# Altium integrated library Maxim Amplifiers and Comparators.IntLib: 420 symbols (part 11 of 16)
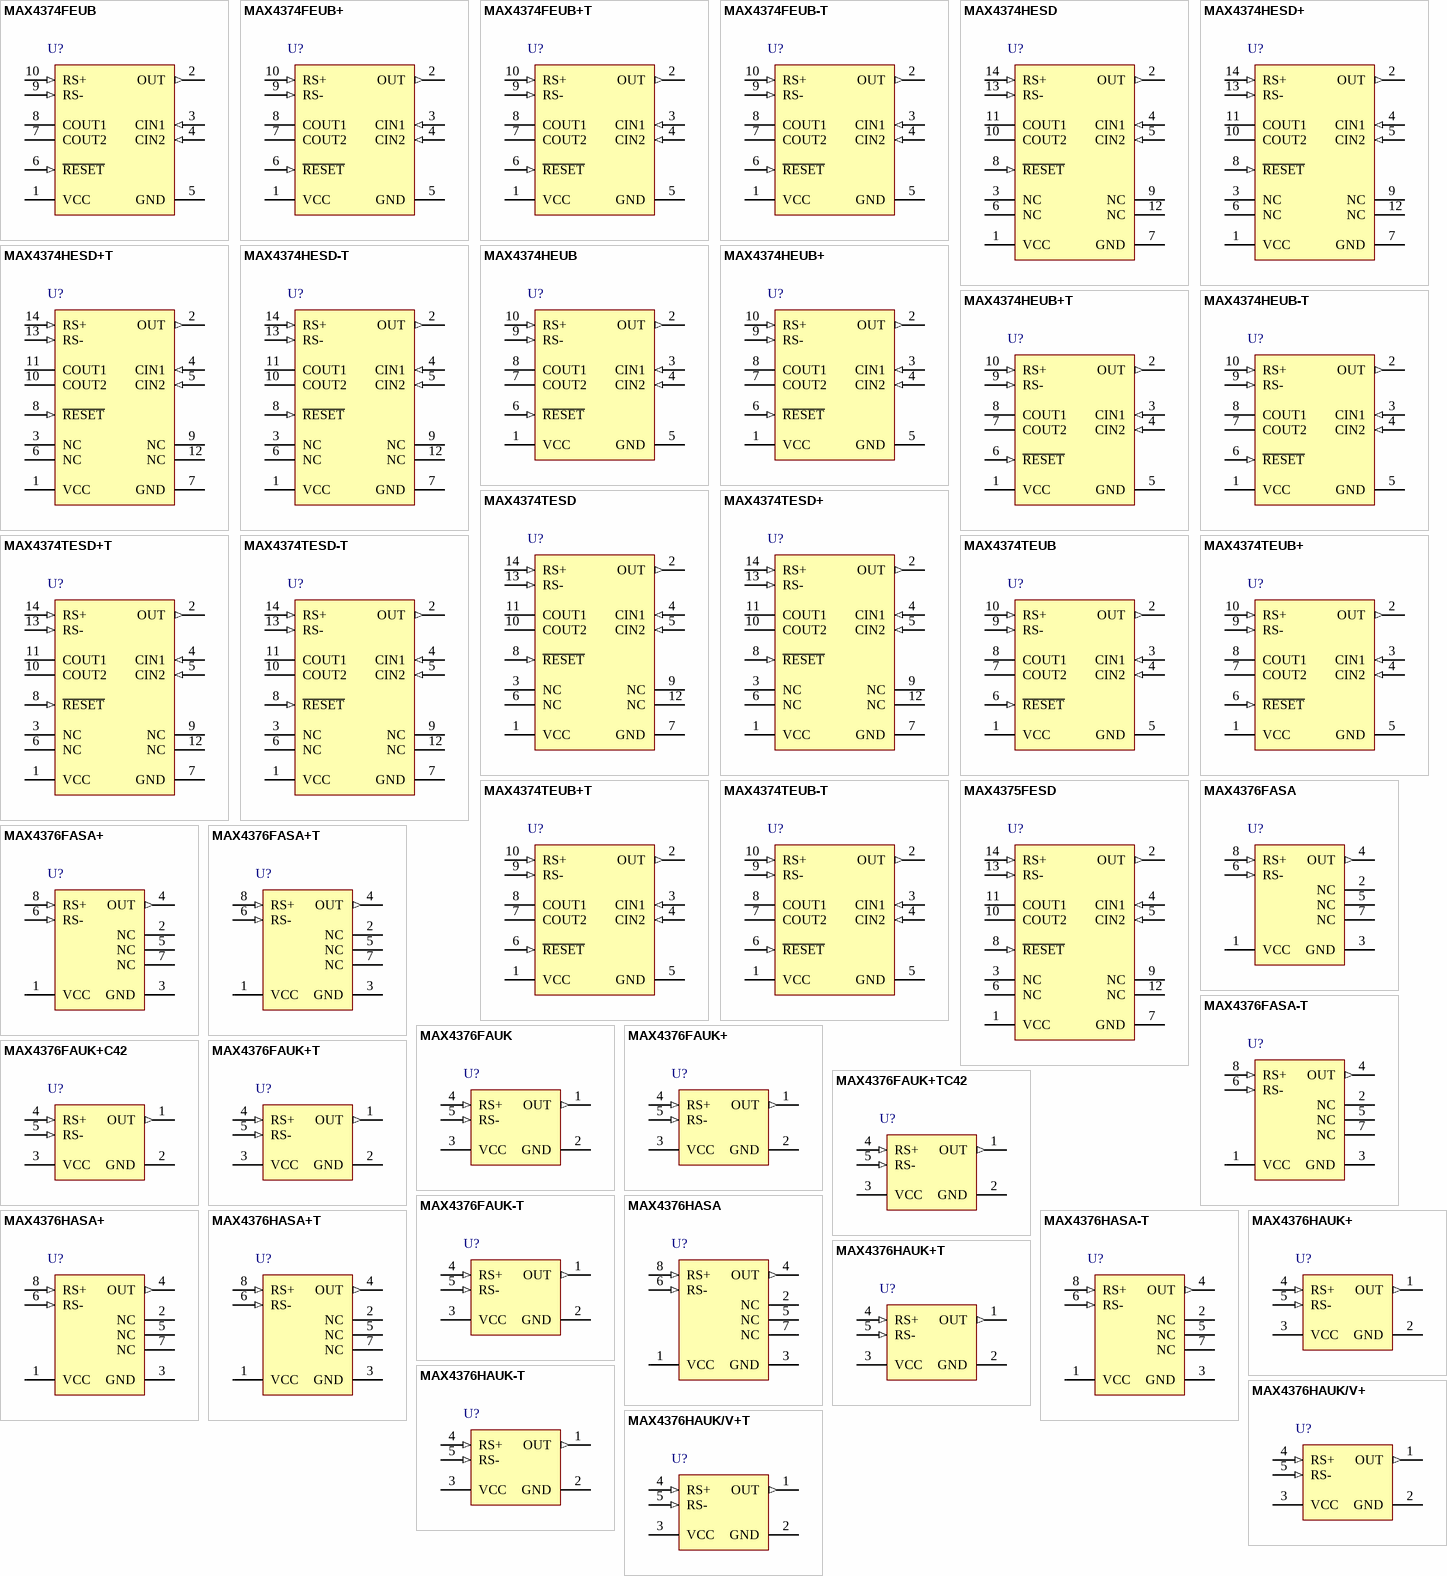
[diagram p20: symbols MAX4374FEUB to MAX4376HAUK/V+T]

## MAX4374TEUB-T
designator U?
Low-cost, Micropower, High-Side Current-Sense Amplifier + 2 Comparators + Reference, 20 V / V Gain, -40 to 85 degC, 10-Pin SOP (U10-2), Tape and Reel; PartNumber: MAX4374TEUB-T; Bi-Dir. Curr. Sense: No; Gain: 20 V/V, 50 V/V ,100 V/V; DatasheetVersion: Rev. 4; PackageVersion: Rev. L, 07/2008; PackageReference: U10-2; PackageDescription: 10-Pin Micro-MAX, Thin Shrink Small-Outline (U10-2), Body 3 x 3 mm, Pitch 0.5 mm; Supplier 1: Digi-Key; Supplier Part Number 1: MAX4374TEUB-T-ND; Supplier 2: Mouser; Supplier Part Number 2: 700-MAX4374TEUB-T-; Mounting Technology: Surface Mount; Code_JEDEC: MO-187; ComponentLink1Description: Manufacturer URL; ComponentLink1URL: http://www.maximintegrated.com/; ComponentLink2Description: Datasheet; ComponentLink2URL: http://datasheets.maximintegrated.com/en/ds/MAX4373-MAX4375.pdf; ComponentLink3Description: Package Specification; ComponentLink3URL: http://pdfserv.maximintegrated.com/package_dwgs/21-0061.PDF
footprint MAXM-U10-2_N (SOP, 10-Leads, Body 3x3mm, Pitch 0.5mm, IPC Medium Density)
footprint MAXM-U10-2_L (SOP, 10-Leads, Body 3x3mm, Pitch 0.5mm, IPC High Density)
footprint MAXM-U10-2_M (SOP, 10-Leads, Body 3x3mm, Pitch 0.5mm, IPC Low Density)
pins: 1 VCC (power) "Supply Voltage Input", 2 OUT (out) "Voltage Output. VOUT is proportional to VSENSE (VRS+ - VRS-).", 3 CIN1 (in) "Comparator Input 1. Positive input of an internal comparator. The negative terminal is connected to a 0.6V internal reference.", 4 CIN2 (in) "Comparator Input 2. Terminal of a second internal comparator. The positive terminal for the MAX4374 and the negative terminal for the MAX4375. The other terminal is connected to a 0.6V internal reference.", 5 GND (power) "Ground", 6 ~{RESET} (in) "Reset Input. Resets the output latch of the comparator at CIN1.", 7 COUT2 (oc) "Open-Drain Comparator Output. Output of the second unlatched internal comparator.", 8 COUT1 (oc) "Open-Drain Comparator Output. Latching output of the comparator controlled by CIN1. Connect R\E\S\E\T\ to GND to disable the latch.", 9 RS- (in) "Load-Side Connection for the External Sense Resistor", 10 RS+ (in) "Power Connection to the External Sense Resistor"

## MAX4375FESD
designator U?
Low-cost, Micropower, High-Side Current-Sense Amplifier + 2 Comparators + Reference, 50 V / V Gain, -40 to 85 degC, 14-Pin SOIC (S14-1); PartNumber: MAX4375FESD; Bi-Dir. Curr. Sense: No; Gain: 20 V/V, 50 V/V, 100 V/V; DatasheetVersion: Rev. 4; PackageVersion: Rev. D, 10/2012; PackageReference: S14-1; PackageDescription: 14-Pin Small-Outline IC, Narrow (0.15in), Body 3.9 x 8.65 mm, Pitch 1.27 mm; Supplier 1: Digi-Key; Supplier Part Number 1: MAX4375FESD-ND; Supplier 2: Mouser; Supplier Part Number 2: 700-MAX4375FESD-NR; Mounting Technology: Surface Mount; Code_JEDEC: MS-012; ComponentLink1Description: Manufacturer URL; ComponentLink1URL: http://www.maximintegrated.com/; ComponentLink2Description: Datasheet; ComponentLink2URL: http://datasheets.maximintegrated.com/en/ds/MAX4373-MAX4375.pdf; ComponentLink3Description: Package Specification; ComponentLink3URL: http://pdfserv.maximintegrated.com/package_dwgs/21-0041.PDF
footprint MAXM-S14-1_N (SOIC, 14-Leads, Body 8.65x3.9mm, Pitch 1.27mm, IPC Medium Density)
footprint MAXM-S14-1_L (SOIC, 14-Leads, Body 8.65x3.9mm, Pitch 1.27mm, IPC High Density)
footprint MAXM-S14-1_M (SOIC, 14-Leads, Body 8.65x3.9mm, Pitch 1.27mm, IPC Low Density)
pins: 1 VCC (power) "Supply Voltage Input", 2 OUT (out) "Voltage Output. VOUT is proportional to VSENSE (VRS+ - VRS-).", 3 NC "No Connection. Not internally connected.", 4 CIN1 (in) "Comparator Input 1. Positive input of an internal comparator. The negative terminal is connected to a 0.6V internal reference.", 5 CIN2 (in) "Comparator Input 2. Terminal of a second internal comparator. The positive terminal for the MAX4374 and the negative terminal for the MAX4375. The other terminal is connected to a 0.6V internal reference.", 6 NC "No Connection. Not internally connected.", 7 GND (power) "Ground", 8 ~{RESET} (in) "Reset Input. Resets the output latch of the comparator at CIN1.", 9 NC "No Connection. Not internally connected.", 10 COUT2 (oc) "Open-Drain Comparator Output. Output of the second unlatched internal comparator.", 11 COUT1 (oc) "Open-Drain Comparator Output. Latching output of the comparator controlled by CIN1. Connect R\E\S\E\T\ to GND to disable the latch.", 12 NC "No Connection. Not internally connected.", 13 RS- (in) "Load-Side Connection for the External Sense Resistor", 14 RS+ (in) "Power Connection to the External Sense Resistor"

## MAX4376FASA
designator U?
Single High-Side Current Sense Amplifier, 50 V / V Gain, -40 to 125 degC, 8-Pin SOIC (S8-2); PartNumber: MAX4376FASA; Bi-Dir. Curr. Sense: No; Gain: 20 V/V, 50 V/V ,100 V/V; Industry Qualified: Automotive - AECQ100, Automotive - General; DatasheetVersion: Rev. 7; PackageVersion: Rev. D, 10/2012; PackageReference: S8-2; PackageDescription: 8-Pin Small-Outline IC, Narrow (0.15in) (S8-2), Body 4.90 x 3.90 mm, Pitch 1.27 mm; Supplier 1: Digi-Key; Supplier Part Number 1: MAX4376FASA-ND; Supplier 2: Mouser; Supplier Part Number 2: 700-MAX4376FASA-NR; Mounting Technology: Surface Mount; Code_JEDEC: MS012; ComponentLink1Description: Manufacturer URL; ComponentLink1URL: http://www.maximintegrated.com/; ComponentLink2Description: Datasheet; ComponentLink2URL: http://datasheets.maximintegrated.com/en/ds/MAX4376-MAX4378.pdf; ComponentLink3Description: Package Specification; ComponentLink3URL: http://pdfserv.maximintegrated.com/package_dwgs/21-0041.PDF
footprint MAXM-S8-2_N (SOIC, 8-Leads, Body 4.90x3.90mm, Pitch 1.27mm, IPC Medium Density)
footprint MAXM-S8-2_L (SOIC, 8-Leads, Body 4.90x3.90mm, Pitch 1.27mm, IPC High Density)
footprint MAXM-S8-2_M (SOIC, 8-Leads, Body 4.90x3.90mm, Pitch 1.27mm, IPC Low Density)
pins: 1 VCC (power) "Supply Voltage. Use at least a 0.1uF capacitor to decouple VCC from fast transients", 2 NC "No Connection. Not internally connected.", 3 GND (power) "Ground", 4 OUT (out) "Output Voltage. VOUT is proportional to the magnitude of VSENSE (VRS+ - VRS-).", 5 NC "No Connection. Not internally connected.", 6 RS- (in) "Load connection to the external sense resistor.", 7 NC "No Connection. Not internally connected.", 8 RS+ (in) "Power connection to the external-sense resistor."

## MAX4376FASA+
designator U?
Single High-Side Current Sense Amplifier, 50 V / V Gain, -40 to 125 degC, 8-Pin SOIC (S8+2), Pb-Free; PartNumber: MAX4376FASA+; Bi-Dir. Curr. Sense: No; Gain: 20 V/V, 50 V/V ,100 V/V; Industry Qualified: Automotive - AECQ100, Automotive - General; DatasheetVersion: Rev. 7; PackageVersion: Rev. D, 10/2012; PackageReference: S8+2; PackageDescription: 8-Pin Small-Outline IC, Narrow (0.15in) (S8+2), Body 4.90 x 3.90 mm, Pitch 1.27 mm; Supplier 1: Digi-Key; Supplier Part Number 1: MAX4376FASA+-ND; Supplier 2: Mouser; Supplier Part Number 2: 700-MAX4376FASA; Mounting Technology: Surface Mount; Code_JEDEC: MS012; ComponentLink1Description: Manufacturer URL; ComponentLink1URL: http://www.maximintegrated.com/; ComponentLink2Description: Datasheet; ComponentLink2URL: http://datasheets.maximintegrated.com/en/ds/MAX4376-MAX4378.pdf; ComponentLink3Description: Package Specification; ComponentLink3URL: http://pdfserv.maximintegrated.com/package_dwgs/21-0041.PDF
footprint MAXM-S8+2_N (SOIC, 8-Leads, Body 4.90x3.90mm, Pitch 1.27mm, IPC Medium Density)
footprint MAXM-S8+2_L (SOIC, 8-Leads, Body 4.90x3.90mm, Pitch 1.27mm, IPC High Density)
footprint MAXM-S8+2_M (SOIC, 8-Leads, Body 4.90x3.90mm, Pitch 1.27mm, IPC Low Density)
pins: 1 VCC (power) "Supply Voltage. Use at least a 0.1uF capacitor to decouple VCC from fast transients", 2 NC "No Connection. Not internally connected.", 3 GND (power) "Ground", 4 OUT (out) "Output Voltage. VOUT is proportional to the magnitude of VSENSE (VRS+ - VRS-).", 5 NC "No Connection. Not internally connected.", 6 RS- (in) "Load connection to the external sense resistor.", 7 NC "No Connection. Not internally connected.", 8 RS+ (in) "Power connection to the external-sense resistor."

## MAX4376FASA+T
designator U?
Single High-Side Current Sense Amplifier, 50 V / V Gain, -40 to 125 degC, 8-Pin SOIC (S8+2), Pb-Free, Tape and Reel; PartNumber: MAX4376FASA+T; Bi-Dir. Curr. Sense: No; Gain: 20 V/V, 50 V/V ,100 V/V; Industry Qualified: Automotive - AECQ100, Automotive - General; DatasheetVersion: Rev. 7; PackageVersion: Rev. D, 10/2012; PackageReference: S8+2; PackageDescription: 8-Pin Small-Outline IC, Narrow (0.15in) (S8+2), Body 4.90 x 3.90 mm, Pitch 1.27 mm; Supplier 1: Digi-Key; Supplier Part Number 1: MAX4376FASA+T-ND; Supplier 2: Mouser; Supplier Part Number 2: 700-MAX4376FASA+T; Mounting Technology: Surface Mount; Code_JEDEC: MS012; ComponentLink1Description: Manufacturer URL; ComponentLink1URL: http://www.maximintegrated.com/; ComponentLink2Description: Datasheet; ComponentLink2URL: http://datasheets.maximintegrated.com/en/ds/MAX4376-MAX4378.pdf; ComponentLink3Description: Package Specification; ComponentLink3URL: http://pdfserv.maximintegrated.com/package_dwgs/21-0041.PDF
footprint MAXM-S8+2_N (SOIC, 8-Leads, Body 4.90x3.90mm, Pitch 1.27mm, IPC Medium Density)
footprint MAXM-S8+2_L (SOIC, 8-Leads, Body 4.90x3.90mm, Pitch 1.27mm, IPC High Density)
footprint MAXM-S8+2_M (SOIC, 8-Leads, Body 4.90x3.90mm, Pitch 1.27mm, IPC Low Density)
pins: 1 VCC (power) "Supply Voltage. Use at least a 0.1uF capacitor to decouple VCC from fast transients", 2 NC "No Connection. Not internally connected.", 3 GND (power) "Ground", 4 OUT (out) "Output Voltage. VOUT is proportional to the magnitude of VSENSE (VRS+ - VRS-).", 5 NC "No Connection. Not internally connected.", 6 RS- (in) "Load connection to the external sense resistor.", 7 NC "No Connection. Not internally connected.", 8 RS+ (in) "Power connection to the external-sense resistor."

## MAX4376FASA-T
designator U?
Single High-Side Current Sense Amplifier, 50 V / V Gain, -40 to 125 degC, 8-Pin SOIC (S8-2), Tape and Reel; PartNumber: MAX4376FASA-T; Bi-Dir. Curr. Sense: No; Gain: 20 V/V, 50 V/V ,100 V/V; Industry Qualified: Automotive - AECQ100, Automotive - General; DatasheetVersion: Rev. 7; PackageVersion: Rev. D, 10/2012; PackageReference: S8-2; PackageDescription: 8-Pin Small-Outline IC, Narrow (0.15in) (S8-2), Body 4.90 x 3.90 mm, Pitch 1.27 mm; Supplier 1: Digi-Key; Supplier Part Number 1: MAX4376FASA-T-ND; Supplier 2: Mouser; Supplier Part Number 2: 700-MAX4376FASA-T-; Mounting Technology: Surface Mount; Code_JEDEC: MS012; ComponentLink1Description: Manufacturer URL; ComponentLink1URL: http://www.maximintegrated.com/; ComponentLink2Description: Datasheet; ComponentLink2URL: http://datasheets.maximintegrated.com/en/ds/MAX4376-MAX4378.pdf; ComponentLink3Description: Package Specification; ComponentLink3URL: http://pdfserv.maximintegrated.com/package_dwgs/21-0041.PDF
footprint MAXM-S8-2_N (SOIC, 8-Leads, Body 4.90x3.90mm, Pitch 1.27mm, IPC Medium Density)
footprint MAXM-S8-2_L (SOIC, 8-Leads, Body 4.90x3.90mm, Pitch 1.27mm, IPC High Density)
footprint MAXM-S8-2_M (SOIC, 8-Leads, Body 4.90x3.90mm, Pitch 1.27mm, IPC Low Density)
pins: 1 VCC (power) "Supply Voltage. Use at least a 0.1uF capacitor to decouple VCC from fast transients", 2 NC "No Connection. Not internally connected.", 3 GND (power) "Ground", 4 OUT (out) "Output Voltage. VOUT is proportional to the magnitude of VSENSE (VRS+ - VRS-).", 5 NC "No Connection. Not internally connected.", 6 RS- (in) "Load connection to the external sense resistor.", 7 NC "No Connection. Not internally connected.", 8 RS+ (in) "Power connection to the external-sense resistor."

## MAX4376FAUK
designator U?
Single High-Side Current Sense Amplifier, 50 V / V Gain, -40 to 125 degC, 5-Pin SOT23 (U5-2); PartNumber: MAX4376FAUK; Bi-Dir. Curr. Sense: No; Gain: 20 V/V, 50 V/V ,100 V/V; Industry Qualified: Automotive - AECQ100, Automotive - General; DatasheetVersion: Rev. 7; PackageVersion: Rev. G, 04/2011; PackageReference: U5-2; PackageDescription: 5-Pin Small-Outline Transistor Package, Body 1.625 x 2.9 mm, Pitch 0.95 mm; Supplier 1: Mouser; Supplier Part Number 1: N/A; Mounting Technology: Surface Mount; Code_JEDEC: MO-178; ComponentLink1Description: Manufacturer URL; ComponentLink1URL: http://www.maximintegrated.com/; ComponentLink2Description: Datasheet; ComponentLink2URL: http://datasheets.maximintegrated.com/en/ds/MAX4376-MAX4378.pdf; ComponentLink3Description: Package Specification; ComponentLink3URL: http://pdfserv.maximintegrated.com/package_dwgs/21-0057.PDF
footprint MAXM-U5-2_N (SOT23, 5-Leads, Body 2.9x1.625mm, Pitch 0.95mm, IPC Medium Density)
footprint MAXM-U5-2_L (SOT23, 5-Leads, Body 2.9x1.625mm, Pitch 0.95mm, IPC High Density)
footprint MAXM-U5-2_M (SOT23, 5-Leads, Body 2.9x1.625mm, Pitch 0.95mm, IPC Low Density)
pins: 1 OUT (out) "Output Voltage. VOUT_ is proportional to the magnitude of the sense voltage (VRS+ - VRS-). VOUT_ is approximately zero when VRS - > VRS - + (no phase reversal).", 2 GND (power) "Ground", 3 VCC (power) "Supply Voltage", 4 RS+ (in) "Power connection to the external sense resistor", 5 RS- (in) "Load-side connection to the external sense resistor"

## MAX4376FAUK+
designator U?
Single High-Side Current Sense Amplifier, 50 V / V Gain, -40 to 125 degC, 5-Pin SOT23 (U5+2), Pb-Free; PartNumber: MAX4376FAUK+; Bi-Dir. Curr. Sense: No; Gain: 20 V/V, 50 V/V ,100 V/V; Industry Qualified: Automotive - AECQ100, Automotive - General; DatasheetVersion: Rev. 7; PackageVersion: Rev. G, 04/2011; PackageReference: U5+2; PackageDescription: 5-Pin Small-Outline Transistor Package, Body 1.625 x 2.9 mm, Pitch 0.95 mm; Supplier 1: Mouser; Supplier Part Number 1: N/A; Mounting Technology: Surface Mount; Code_JEDEC: MO178; ComponentLink1Description: Manufacturer URL; ComponentLink1URL: http://www.maximintegrated.com/; ComponentLink2Description: Datasheet; ComponentLink2URL: http://datasheets.maximintegrated.com/en/ds/MAX4376-MAX4378.pdf; ComponentLink3Description: Package Specification; ComponentLink3URL: http://pdfserv.maximintegrated.com/package_dwgs/21-0057.PDF
footprint MAXM-U5+2_N (SOT23, 5-Leads, Body 2.9x1.625mm, Pitch 0.95mm, IPC Medium Density)
footprint MAXM-U5+2_L (SOT23, 5-Leads, Body 2.9x1.625mm, Pitch 0.95mm, IPC High Density)
footprint MAXM-U5+2_M (SOT23, 5-Leads, Body 2.9x1.625mm, Pitch 0.95mm, IPC Low Density)
pins: 1 OUT (out) "Output Voltage. VOUT_ is proportional to the magnitude of the sense voltage (VRS+ - VRS-). VOUT_ is approximately zero when VRS - > VRS - + (no phase reversal).", 2 GND (power) "Ground", 3 VCC (power) "Supply Voltage", 4 RS+ (in) "Power connection to the external sense resistor", 5 RS- (in) "Load-side connection to the external sense resistor"

## MAX4376FAUK+C42
designator U?
Single High-Side Current Sense Amplifier, 50 V / V Gain, -40 to 125 degC, 5-Pin SOT23 (U5+2), Pb-Free; PartNumber: MAX4376FAUK+C42; Bi-Dir. Curr. Sense: No; Gain: 20 V/V, 50 V/V ,100 V/V; Industry Qualified: Automotive - AECQ100, Automotive - General; DatasheetVersion: Rev. 7; PackageVersion: Rev. G, 04/2011; PackageReference: U5+2; PackageDescription: 5-Pin Small-Outline Transistor Package, Body 1.625 x 2.9 mm, Pitch 0.95 mm; Supplier 1: Mouser; Supplier Part Number 1: N/A; Mounting Technology: Surface Mount; Code_JEDEC: MO178; ComponentLink1Description: Manufacturer URL; ComponentLink1URL: http://www.maximintegrated.com/; ComponentLink2Description: Datasheet; ComponentLink2URL: http://datasheets.maximintegrated.com/en/ds/MAX4376-MAX4378.pdf; ComponentLink3Description: Package Specification; ComponentLink3URL: http://pdfserv.maximintegrated.com/package_dwgs/21-0057.PDF
footprint MAXM-U5+2_N (SOT23, 5-Leads, Body 2.9x1.625mm, Pitch 0.95mm, IPC Medium Density)
footprint MAXM-U5+2_L (SOT23, 5-Leads, Body 2.9x1.625mm, Pitch 0.95mm, IPC High Density)
footprint MAXM-U5+2_M (SOT23, 5-Leads, Body 2.9x1.625mm, Pitch 0.95mm, IPC Low Density)
pins: 1 OUT (out) "Output Voltage. VOUT_ is proportional to the magnitude of the sense voltage (VRS+ - VRS-). VOUT_ is approximately zero when VRS - > VRS - + (no phase reversal).", 2 GND (power) "Ground", 3 VCC (power) "Supply Voltage", 4 RS+ (in) "Power connection to the external sense resistor", 5 RS- (in) "Load-side connection to the external sense resistor"

## MAX4376FAUK+T
designator U?
Single High-Side Current Sense Amplifier, 50 V / V Gain, -40 to 125 degC, 5-Pin SOT23 (U5+2), Pb-Free, Tape and Reel; PartNumber: MAX4376FAUK+T; Bi-Dir. Curr. Sense: No; Gain: 20 V/V, 50 V/V ,100 V/V; Industry Qualified: Automotive - AECQ100, Automotive - General; DatasheetVersion: Rev. 7; PackageVersion: Rev. G, 04/2011; PackageReference: U5+2; PackageDescription: 5-Pin Small-Outline Transistor Package, Body 1.625 x 2.9 mm, Pitch 0.95 mm; Supplier 1: Digi-Key; Supplier Part Number 1: MAX4376FAUK+TTR-ND; Supplier 2: Digi-Key; Supplier Part Number 2: MAX4376FAUK+TCT-ND; Supplier 3: Digi-Key; Supplier Part Number 3: MAX4376FAUK+TDKR-ND; Supplier 4: Mouser; Supplier Part Number 4: 700-MAX4376FAUKT; Mounting Technology: Surface Mount; Code_JEDEC: MO178; ComponentLink1Description: Manufacturer URL; ComponentLink1URL: http://www.maximintegrated.com/; ComponentLink2Description: Datasheet; ComponentLink2URL: http://datasheets.maximintegrated.com/en/ds/MAX4376-MAX4378.pdf; ComponentLink3Description: Package Specification; ComponentLink3URL: http://pdfserv.maximintegrated.com/package_dwgs/21-0057.PDF
footprint MAXM-U5+2_N (SOT23, 5-Leads, Body 2.9x1.625mm, Pitch 0.95mm, IPC Medium Density)
footprint MAXM-U5+2_L (SOT23, 5-Leads, Body 2.9x1.625mm, Pitch 0.95mm, IPC High Density)
footprint MAXM-U5+2_M (SOT23, 5-Leads, Body 2.9x1.625mm, Pitch 0.95mm, IPC Low Density)
pins: 1 OUT (out) "Output Voltage. VOUT_ is proportional to the magnitude of the sense voltage (VRS+ - VRS-). VOUT_ is approximately zero when VRS - > VRS - + (no phase reversal).", 2 GND (power) "Ground", 3 VCC (power) "Supply Voltage", 4 RS+ (in) "Power connection to the external sense resistor", 5 RS- (in) "Load-side connection to the external sense resistor"

## MAX4376FAUK+TC42
designator U?
Single High-Side Current Sense Amplifier, 50 V / V Gain, -40 to 125 degC, 5-Pin SOT23 (U5+2), Pb-Free, Tape and Reel; PartNumber: MAX4376FAUK+TC42; Bi-Dir. Curr. Sense: No; Gain: 20 V/V, 50 V/V ,100 V/V; Industry Qualified: Automotive - AECQ100, Automotive - General; DatasheetVersion: Rev. 7; PackageVersion: Rev. G, 04/2011; PackageReference: U5+2; PackageDescription: 5-Pin Small-Outline Transistor Package, Body 1.625 x 2.9 mm, Pitch 0.95 mm; Supplier 1: Mouser; Supplier Part Number 1: N/A; Mounting Technology: Surface Mount; Code_JEDEC: MO178; ComponentLink1Description: Manufacturer URL; ComponentLink1URL: http://www.maximintegrated.com/; ComponentLink2Description: Datasheet; ComponentLink2URL: http://datasheets.maximintegrated.com/en/ds/MAX4376-MAX4378.pdf; ComponentLink3Description: Package Specification; ComponentLink3URL: http://pdfserv.maximintegrated.com/package_dwgs/21-0057.PDF
footprint MAXM-U5+2_N (SOT23, 5-Leads, Body 2.9x1.625mm, Pitch 0.95mm, IPC Medium Density)
footprint MAXM-U5+2_L (SOT23, 5-Leads, Body 2.9x1.625mm, Pitch 0.95mm, IPC High Density)
footprint MAXM-U5+2_M (SOT23, 5-Leads, Body 2.9x1.625mm, Pitch 0.95mm, IPC Low Density)
pins: 1 OUT (out) "Output Voltage. VOUT_ is proportional to the magnitude of the sense voltage (VRS+ - VRS-). VOUT_ is approximately zero when VRS - > VRS - + (no phase reversal).", 2 GND (power) "Ground", 3 VCC (power) "Supply Voltage", 4 RS+ (in) "Power connection to the external sense resistor", 5 RS- (in) "Load-side connection to the external sense resistor"

## MAX4376FAUK-T
designator U?
Single High-Side Current Sense Amplifier, 50 V / V Gain, -40 to 125 degC, 5-Pin SOT23 (U5-2), Tape and Reel; PartNumber: MAX4376FAUK-T; Bi-Dir. Curr. Sense: No; Gain: 20 V/V, 50 V/V ,100 V/V; Industry Qualified: Automotive - AECQ100, Automotive - General; DatasheetVersion: Rev. 7; PackageVersion: Rev. G, 04/2011; PackageReference: U5-2; PackageDescription: 5-Pin Small-Outline Transistor Package, Body 1.625 x 2.9 mm, Pitch 0.95 mm; Supplier 1: Digi-Key; Supplier Part Number 1: MAX4376FAUK-T-ND; Supplier 2: Mouser; Supplier Part Number 2: 700-MAX4376FAUK-T-NR; Mounting Technology: Surface Mount; Code_JEDEC: MO-178; ComponentLink1Description: Manufacturer URL; ComponentLink1URL: http://www.maximintegrated.com/; ComponentLink2Description: Datasheet; ComponentLink2URL: http://datasheets.maximintegrated.com/en/ds/MAX4376-MAX4378.pdf; ComponentLink3Description: Package Specification; ComponentLink3URL: http://pdfserv.maximintegrated.com/package_dwgs/21-0057.PDF
footprint MAXM-U5-2_N (SOT23, 5-Leads, Body 2.9x1.625mm, Pitch 0.95mm, IPC Medium Density)
footprint MAXM-U5-2_L (SOT23, 5-Leads, Body 2.9x1.625mm, Pitch 0.95mm, IPC High Density)
footprint MAXM-U5-2_M (SOT23, 5-Leads, Body 2.9x1.625mm, Pitch 0.95mm, IPC Low Density)
pins: 1 OUT (out) "Output Voltage. VOUT_ is proportional to the magnitude of the sense voltage (VRS+ - VRS-). VOUT_ is approximately zero when VRS - > VRS - + (no phase reversal).", 2 GND (power) "Ground", 3 VCC (power) "Supply Voltage", 4 RS+ (in) "Power connection to the external sense resistor", 5 RS- (in) "Load-side connection to the external sense resistor"

## MAX4376HASA
designator U?
Single High-Side Current Sense Amplifier, 100 V / V Gain, -40 to 125 degC, 8-Pin SOIC (S8-2); PartNumber: MAX4376HASA; Bi-Dir. Curr. Sense: No; Gain: 20 V/V, 50 V/V ,100 V/V; Industry Qualified: Automotive - AECQ100, Automotive - General; DatasheetVersion: Rev. 7; PackageVersion: Rev. D, 10/2012; PackageReference: S8-2; PackageDescription: 8-Pin Small-Outline IC, Narrow (0.15in) (S8-2), Body 4.90 x 3.90 mm, Pitch 1.27 mm; Supplier 1: Digi-Key; Supplier Part Number 1: MAX4376HASA-ND; Supplier 2: Mouser; Supplier Part Number 2: 700-MAX4376HASA-NR; Mounting Technology: Surface Mount; Code_JEDEC: MS012; ComponentLink1Description: Manufacturer URL; ComponentLink1URL: http://www.maximintegrated.com/; ComponentLink2Description: Datasheet; ComponentLink2URL: http://datasheets.maximintegrated.com/en/ds/MAX4376-MAX4378.pdf; ComponentLink3Description: Package Specification; ComponentLink3URL: http://pdfserv.maximintegrated.com/package_dwgs/21-0041.PDF
footprint MAXM-S8-2_N (SOIC, 8-Leads, Body 4.90x3.90mm, Pitch 1.27mm, IPC Medium Density)
footprint MAXM-S8-2_L (SOIC, 8-Leads, Body 4.90x3.90mm, Pitch 1.27mm, IPC High Density)
footprint MAXM-S8-2_M (SOIC, 8-Leads, Body 4.90x3.90mm, Pitch 1.27mm, IPC Low Density)
pins: 1 VCC (power) "Supply Voltage. Use at least a 0.1uF capacitor to decouple VCC from fast transients", 2 NC "No Connection. Not internally connected.", 3 GND (power) "Ground", 4 OUT (out) "Output Voltage. VOUT is proportional to the magnitude of VSENSE (VRS+ - VRS-).", 5 NC "No Connection. Not internally connected.", 6 RS- (in) "Load connection to the external sense resistor.", 7 NC "No Connection. Not internally connected.", 8 RS+ (in) "Power connection to the external-sense resistor."

## MAX4376HASA+
designator U?
Single High-Side Current Sense Amplifier, 100 V / V Gain, -40 to 125 degC, 8-Pin SOIC (S8+2), Pb-Free; PartNumber: MAX4376HASA+; Bi-Dir. Curr. Sense: No; Gain: 20 V/V, 50 V/V ,100 V/V; Industry Qualified: Automotive - AECQ100, Automotive - General; DatasheetVersion: Rev. 7; PackageVersion: Rev. D, 10/2012; PackageReference: S8+2; PackageDescription: 8-Pin Small-Outline IC, Narrow (0.15in) (S8+2), Body 4.90 x 3.90 mm, Pitch 1.27 mm; Supplier 1: Digi-Key; Supplier Part Number 1: MAX4376HASA+-ND; Supplier 2: Mouser; Supplier Part Number 2: 700-MAX4376HASA; Mounting Technology: Surface Mount; Code_JEDEC: MS012; ComponentLink1Description: Manufacturer URL; ComponentLink1URL: http://www.maximintegrated.com/; ComponentLink2Description: Datasheet; ComponentLink2URL: http://datasheets.maximintegrated.com/en/ds/MAX4376-MAX4378.pdf; ComponentLink3Description: Package Specification; ComponentLink3URL: http://pdfserv.maximintegrated.com/package_dwgs/21-0041.PDF
footprint MAXM-S8+2_N (SOIC, 8-Leads, Body 4.90x3.90mm, Pitch 1.27mm, IPC Medium Density)
footprint MAXM-S8+2_L (SOIC, 8-Leads, Body 4.90x3.90mm, Pitch 1.27mm, IPC High Density)
footprint MAXM-S8+2_M (SOIC, 8-Leads, Body 4.90x3.90mm, Pitch 1.27mm, IPC Low Density)
pins: 1 VCC (power) "Supply Voltage. Use at least a 0.1uF capacitor to decouple VCC from fast transients", 2 NC "No Connection. Not internally connected.", 3 GND (power) "Ground", 4 OUT (out) "Output Voltage. VOUT is proportional to the magnitude of VSENSE (VRS+ - VRS-).", 5 NC "No Connection. Not internally connected.", 6 RS- (in) "Load connection to the external sense resistor.", 7 NC "No Connection. Not internally connected.", 8 RS+ (in) "Power connection to the external-sense resistor."

## MAX4376HASA+T
designator U?
Single High-Side Current Sense Amplifier, 100 V / V Gain, -40 to 125 degC, 8-Pin SOIC (S8+2), Pb-Free, Tape and Reel; PartNumber: MAX4376HASA+T; Bi-Dir. Curr. Sense: No; Gain: 20 V/V, 50 V/V ,100 V/V; Industry Qualified: Automotive - AECQ100, Automotive - General; DatasheetVersion: Rev. 7; PackageVersion: Rev. D, 10/2012; PackageReference: S8+2; PackageDescription: 8-Pin Small-Outline IC, Narrow (0.15in) (S8+2), Body 4.90 x 3.90 mm, Pitch 1.27 mm; Supplier 1: Digi-Key; Supplier Part Number 1: MAX4376HASA+T-ND; Supplier 2: Mouser; Supplier Part Number 2: 700-MAX4376HASA+T; Mounting Technology: Surface Mount; Code_JEDEC: MS012; ComponentLink1Description: Manufacturer URL; ComponentLink1URL: http://www.maximintegrated.com/; ComponentLink2Description: Datasheet; ComponentLink2URL: http://datasheets.maximintegrated.com/en/ds/MAX4376-MAX4378.pdf; ComponentLink3Description: Package Specification; ComponentLink3URL: http://pdfserv.maximintegrated.com/package_dwgs/21-0041.PDF
footprint MAXM-S8+2_N (SOIC, 8-Leads, Body 4.90x3.90mm, Pitch 1.27mm, IPC Medium Density)
footprint MAXM-S8+2_L (SOIC, 8-Leads, Body 4.90x3.90mm, Pitch 1.27mm, IPC High Density)
footprint MAXM-S8+2_M (SOIC, 8-Leads, Body 4.90x3.90mm, Pitch 1.27mm, IPC Low Density)
pins: 1 VCC (power) "Supply Voltage. Use at least a 0.1uF capacitor to decouple VCC from fast transients", 2 NC "No Connection. Not internally connected.", 3 GND (power) "Ground", 4 OUT (out) "Output Voltage. VOUT is proportional to the magnitude of VSENSE (VRS+ - VRS-).", 5 NC "No Connection. Not internally connected.", 6 RS- (in) "Load connection to the external sense resistor.", 7 NC "No Connection. Not internally connected.", 8 RS+ (in) "Power connection to the external-sense resistor."

## MAX4376HASA-T
designator U?
Single High-Side Current Sense Amplifier, 100 V / V Gain, -40 to 125 degC, 8-Pin SOIC (S8-2), Tape and Reel; PartNumber: MAX4376HASA-T; Bi-Dir. Curr. Sense: No; Gain: 20 V/V, 50 V/V ,100 V/V; Industry Qualified: Automotive - AECQ100, Automotive - General; DatasheetVersion: Rev. 7; PackageVersion: Rev. D, 10/2012; PackageReference: S8-2; PackageDescription: 8-Pin Small-Outline IC, Narrow (0.15in) (S8-2), Body 4.90 x 3.90 mm, Pitch 1.27 mm; Supplier 1: Digi-Key; Supplier Part Number 1: MAX4376HASA-T-ND; Supplier 2: Mouser; Supplier Part Number 2: 700-MAX4376HASA-T-; Mounting Technology: Surface Mount; Code_JEDEC: MS012; ComponentLink1Description: Manufacturer URL; ComponentLink1URL: http://www.maximintegrated.com/; ComponentLink2Description: Datasheet; ComponentLink2URL: http://datasheets.maximintegrated.com/en/ds/MAX4376-MAX4378.pdf; ComponentLink3Description: Package Specification; ComponentLink3URL: http://pdfserv.maximintegrated.com/package_dwgs/21-0041.PDF
footprint MAXM-S8-2_N (SOIC, 8-Leads, Body 4.90x3.90mm, Pitch 1.27mm, IPC Medium Density)
footprint MAXM-S8-2_L (SOIC, 8-Leads, Body 4.90x3.90mm, Pitch 1.27mm, IPC High Density)
footprint MAXM-S8-2_M (SOIC, 8-Leads, Body 4.90x3.90mm, Pitch 1.27mm, IPC Low Density)
pins: 1 VCC (power) "Supply Voltage. Use at least a 0.1uF capacitor to decouple VCC from fast transients", 2 NC "No Connection. Not internally connected.", 3 GND (power) "Ground", 4 OUT (out) "Output Voltage. VOUT is proportional to the magnitude of VSENSE (VRS+ - VRS-).", 5 NC "No Connection. Not internally connected.", 6 RS- (in) "Load connection to the external sense resistor.", 7 NC "No Connection. Not internally connected.", 8 RS+ (in) "Power connection to the external-sense resistor."

## MAX4376HAUK+
designator U?
Single High-Side Current Sense Amplifier, 100 V / V Gain, -40 to 125 degC, 5-Pin SOT23 (U5+2), Pb-Free; PartNumber: MAX4376HAUK+; Bi-Dir. Curr. Sense: No; Gain: 20 V/V, 50 V/V ,100 V/V; Industry Qualified: Automotive - AECQ100, Automotive - General; DatasheetVersion: Rev. 7; PackageVersion: Rev. G, 04/2011; PackageReference: U5+2; PackageDescription: 5-Pin Small-Outline Transistor Package, Body 1.625 x 2.9 mm, Pitch 0.95 mm; Supplier 1: Mouser; Supplier Part Number 1: N/A; Mounting Technology: Surface Mount; Code_JEDEC: MO178; ComponentLink1Description: Manufacturer URL; ComponentLink1URL: http://www.maximintegrated.com/; ComponentLink2Description: Datasheet; ComponentLink2URL: http://datasheets.maximintegrated.com/en/ds/MAX4376-MAX4378.pdf; ComponentLink3Description: Package Specification; ComponentLink3URL: http://pdfserv.maximintegrated.com/package_dwgs/21-0057.PDF
footprint MAXM-U5+2_N (SOT23, 5-Leads, Body 2.9x1.625mm, Pitch 0.95mm, IPC Medium Density)
footprint MAXM-U5+2_L (SOT23, 5-Leads, Body 2.9x1.625mm, Pitch 0.95mm, IPC High Density)
footprint MAXM-U5+2_M (SOT23, 5-Leads, Body 2.9x1.625mm, Pitch 0.95mm, IPC Low Density)
pins: 1 OUT (out) "Output Voltage. VOUT_ is proportional to the magnitude of the sense voltage (VRS+ - VRS-). VOUT_ is approximately zero when VRS - > VRS - + (no phase reversal).", 2 GND (power) "Ground", 3 VCC (power) "Supply Voltage", 4 RS+ (in) "Power connection to the external sense resistor", 5 RS- (in) "Load-side connection to the external sense resistor"

## MAX4376HAUK+T
designator U?
Single High-Side Current Sense Amplifier, 100 V / V Gain, -40 to 125 degC, 5-Pin SOT23 (U5+2), Pb-Free, Tape and Reel; PartNumber: MAX4376HAUK+T; Bi-Dir. Curr. Sense: No; Gain: 20 V/V, 50 V/V ,100 V/V; Industry Qualified: Automotive - AECQ100, Automotive - General; DatasheetVersion: Rev. 7; PackageVersion: Rev. G, 04/2011; PackageReference: U5+2; PackageDescription: 5-Pin Small-Outline Transistor Package, Body 1.625 x 2.9 mm, Pitch 0.95 mm; Supplier 1: Digi-Key; Supplier Part Number 1: MAX4376HAUK+TTR-ND; Supplier 2: Digi-Key; Supplier Part Number 2: MAX4376HAUK+TCT-ND; Supplier 3: Digi-Key; Supplier Part Number 3: MAX4376HAUK+TDKR-ND; Supplier 4: Mouser; Supplier Part Number 4: 700-MAX4376HAUK+T; Mounting Technology: Surface Mount; Code_JEDEC: MO178; ComponentLink1Description: Manufacturer URL; ComponentLink1URL: http://www.maximintegrated.com/; ComponentLink2Description: Datasheet; ComponentLink2URL: http://datasheets.maximintegrated.com/en/ds/MAX4376-MAX4378.pdf; ComponentLink3Description: Package Specification; ComponentLink3URL: http://pdfserv.maximintegrated.com/package_dwgs/21-0057.PDF
footprint MAXM-U5+2_N (SOT23, 5-Leads, Body 2.9x1.625mm, Pitch 0.95mm, IPC Medium Density)
footprint MAXM-U5+2_L (SOT23, 5-Leads, Body 2.9x1.625mm, Pitch 0.95mm, IPC High Density)
footprint MAXM-U5+2_M (SOT23, 5-Leads, Body 2.9x1.625mm, Pitch 0.95mm, IPC Low Density)
pins: 1 OUT (out) "Output Voltage. VOUT_ is proportional to the magnitude of the sense voltage (VRS+ - VRS-). VOUT_ is approximately zero when VRS - > VRS - + (no phase reversal).", 2 GND (power) "Ground", 3 VCC (power) "Supply Voltage", 4 RS+ (in) "Power connection to the external sense resistor", 5 RS- (in) "Load-side connection to the external sense resistor"

## MAX4376HAUK-T
designator U?
Single High-Side Current Sense Amplifier, 100 V / V Gain, -40 to 125 degC, 5-Pin SOT23 (U5-2), Tape and Reel; PartNumber: MAX4376HAUK-T; Bi-Dir. Curr. Sense: No; Gain: 20 V/V, 50 V/V ,100 V/V; Industry Qualified: Automotive - AECQ100, Automotive - General; DatasheetVersion: Rev. 7; PackageVersion: Rev. G, 04/2011; PackageReference: U5-2; PackageDescription: 5-Pin Small-Outline Transistor Package, Body 1.625 x 2.9 mm, Pitch 0.95 mm; Supplier 1: Digi-Key; Supplier Part Number 1: MAX4376HAUK-T-ND; Supplier 2: Mouser; Supplier Part Number 2: 700-MAX4376HAUK-T-; Mounting Technology: Surface Mount; Code_JEDEC: MO-178; ComponentLink1Description: Manufacturer URL; ComponentLink1URL: http://www.maximintegrated.com/; ComponentLink2Description: Datasheet; ComponentLink2URL: http://datasheets.maximintegrated.com/en/ds/MAX4376-MAX4378.pdf; ComponentLink3Description: Package Specification; ComponentLink3URL: http://pdfserv.maximintegrated.com/package_dwgs/21-0057.PDF
footprint MAXM-U5-2_N (SOT23, 5-Leads, Body 2.9x1.625mm, Pitch 0.95mm, IPC Medium Density)
footprint MAXM-U5-2_L (SOT23, 5-Leads, Body 2.9x1.625mm, Pitch 0.95mm, IPC High Density)
footprint MAXM-U5-2_M (SOT23, 5-Leads, Body 2.9x1.625mm, Pitch 0.95mm, IPC Low Density)
pins: 1 OUT (out) "Output Voltage. VOUT_ is proportional to the magnitude of the sense voltage (VRS+ - VRS-). VOUT_ is approximately zero when VRS - > VRS - + (no phase reversal).", 2 GND (power) "Ground", 3 VCC (power) "Supply Voltage", 4 RS+ (in) "Power connection to the external sense resistor", 5 RS- (in) "Load-side connection to the external sense resistor"

## MAX4376HAUK/V+
designator U?
Single High-Side Current Sense Amplifier, 100 V / V Gain, -40 to 125 degC, 5-Pin SOT23 (U5+2), Pb-Free; PartNumber: MAX4376HAUK/V+; Bi-Dir. Curr. Sense: No; Gain: 20 V/V, 50 V/V ,100 V/V; Industry Qualified: Automotive - AECQ100, Automotive - General; DatasheetVersion: Rev. 7; PackageVersion: Rev. G, 04/2011; PackageReference: U5+2; PackageDescription: 5-Pin Small-Outline Transistor Package, Body 1.625 x 2.9 mm, Pitch 0.95 mm; Supplier 1: Mouser; Supplier Part Number 1: N/A; Mounting Technology: Surface Mount; Code_JEDEC: MO178; ComponentLink1Description: Manufacturer URL; ComponentLink1URL: http://www.maximintegrated.com/; ComponentLink2Description: Datasheet; ComponentLink2URL: http://datasheets.maximintegrated.com/en/ds/MAX4376-MAX4378.pdf; ComponentLink3Description: Package Specification; ComponentLink3URL: http://pdfserv.maximintegrated.com/package_dwgs/21-0057.PDF
footprint MAXM-U5+2_N (SOT23, 5-Leads, Body 2.9x1.625mm, Pitch 0.95mm, IPC Medium Density)
footprint MAXM-U5+2_L (SOT23, 5-Leads, Body 2.9x1.625mm, Pitch 0.95mm, IPC High Density)
footprint MAXM-U5+2_M (SOT23, 5-Leads, Body 2.9x1.625mm, Pitch 0.95mm, IPC Low Density)
pins: 1 OUT (out) "Output Voltage. VOUT_ is proportional to the magnitude of the sense voltage (VRS+ - VRS-). VOUT_ is approximately zero when VRS - > VRS - + (no phase reversal).", 2 GND (power) "Ground", 3 VCC (power) "Supply Voltage", 4 RS+ (in) "Power connection to the external sense resistor", 5 RS- (in) "Load-side connection to the external sense resistor"

## MAX4376HAUK/V+T
designator U?
Single High-Side Current Sense Amplifier, 100 V / V Gain, -40 to 125 degC, 5-Pin SOT23 (U5+2), Pb-Free, Tape and Reel; PartNumber: MAX4376HAUK/V+T; Bi-Dir. Curr. Sense: No; Gain: 20 V/V, 50 V/V ,100 V/V; Industry Qualified: Automotive - AECQ100, Automotive - General; DatasheetVersion: Rev. 7; PackageVersion: Rev. G, 04/2011; PackageReference: U5+2; PackageDescription: 5-Pin Small-Outline Transistor Package, Body 1.625 x 2.9 mm, Pitch 0.95 mm; Supplier 1: Digi-Key; Supplier Part Number 1: MAX4376HAUK/V+T-ND; Supplier 2: Mouser; Supplier Part Number 2: 700-MAX4376HAUK/V+T; Mounting Technology: Surface Mount; Code_JEDEC: MO178; ComponentLink1Description: Manufacturer URL; ComponentLink1URL: http://www.maximintegrated.com/; ComponentLink2Description: Datasheet; ComponentLink2URL: http://datasheets.maximintegrated.com/en/ds/MAX4376-MAX4378.pdf; ComponentLink3Description: Package Specification; ComponentLink3URL: http://pdfserv.maximintegrated.com/package_dwgs/21-0057.PDF
footprint MAXM-U5+2_N (SOT23, 5-Leads, Body 2.9x1.625mm, Pitch 0.95mm, IPC Medium Density)
footprint MAXM-U5+2_L (SOT23, 5-Leads, Body 2.9x1.625mm, Pitch 0.95mm, IPC High Density)
footprint MAXM-U5+2_M (SOT23, 5-Leads, Body 2.9x1.625mm, Pitch 0.95mm, IPC Low Density)
pins: 1 OUT (out) "Output Voltage. VOUT_ is proportional to the magnitude of the sense voltage (VRS+ - VRS-). VOUT_ is approximately zero when VRS - > VRS - + (no phase reversal).", 2 GND (power) "Ground", 3 VCC (power) "Supply Voltage", 4 RS+ (in) "Power connection to the external sense resistor", 5 RS- (in) "Load-side connection to the external sense resistor"

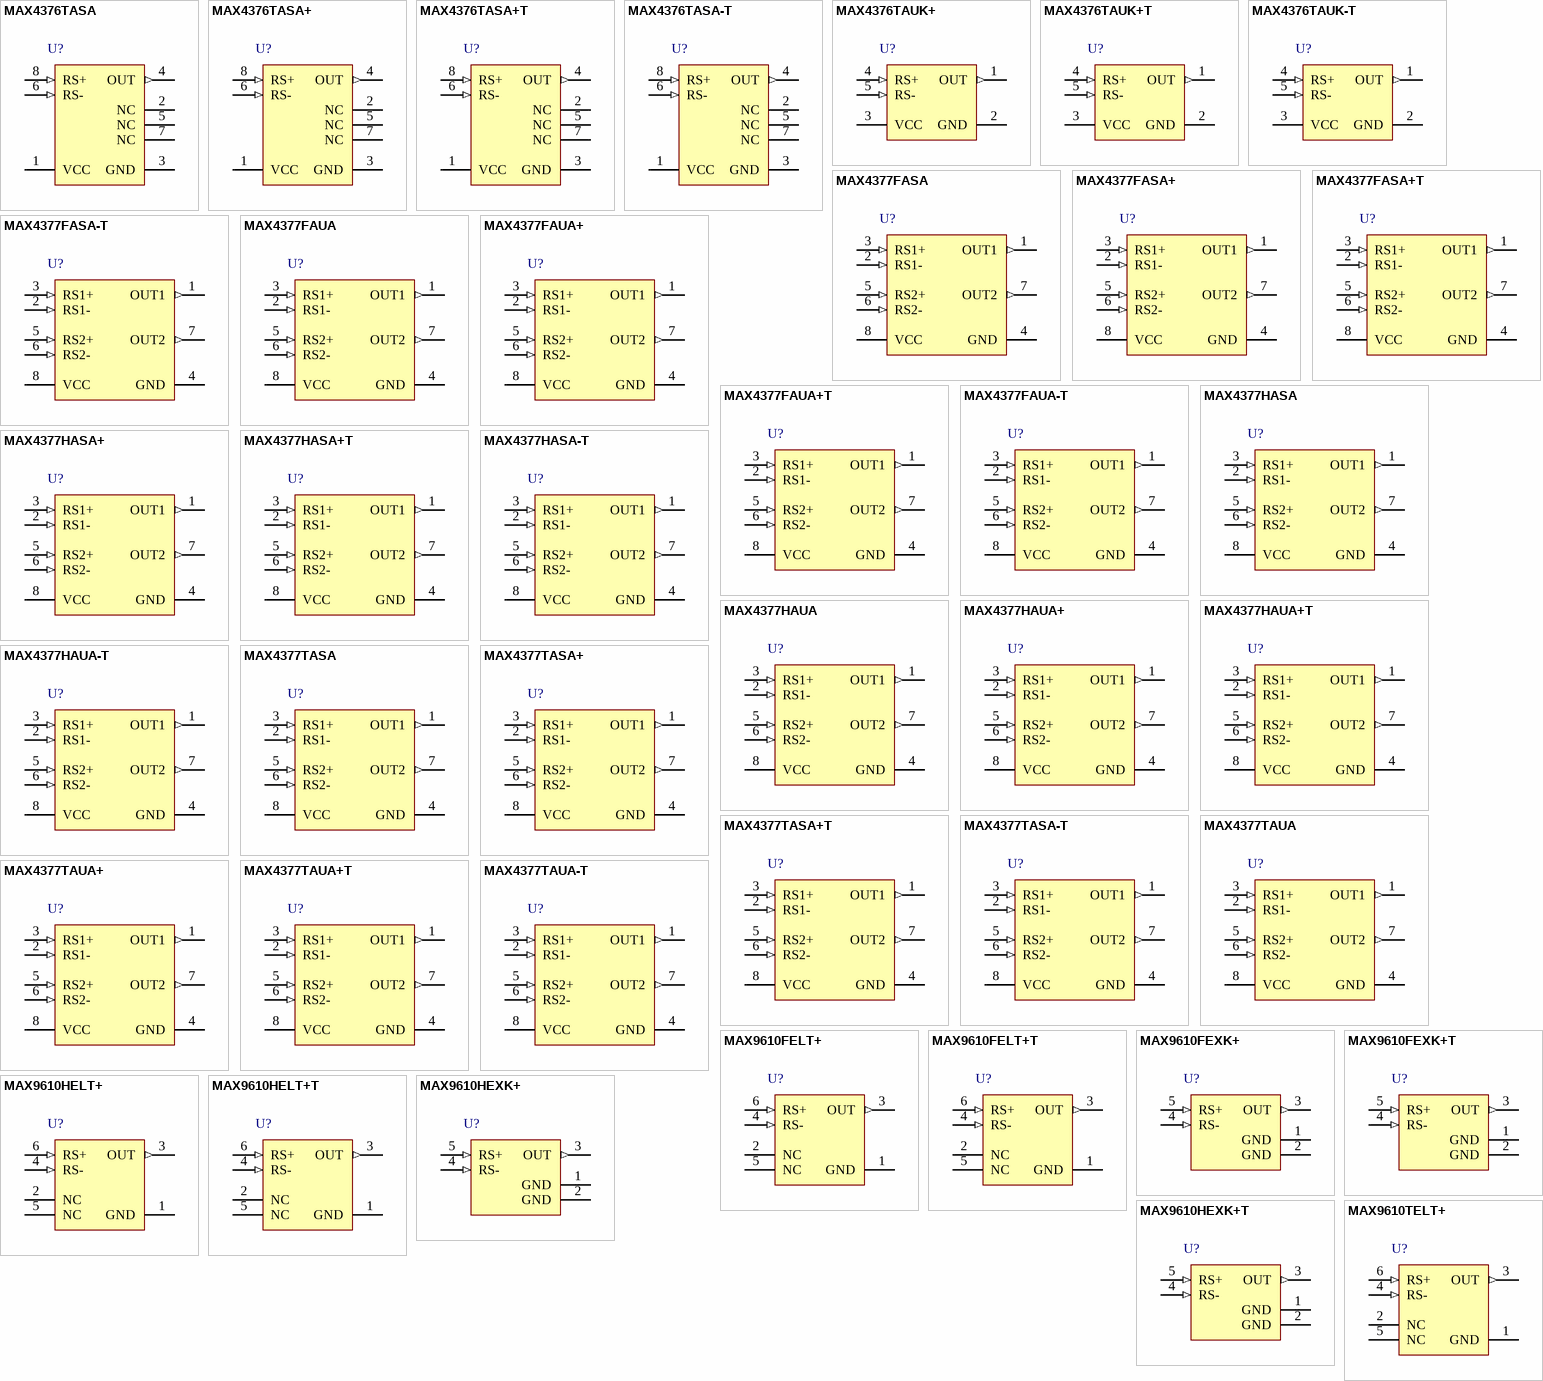
[diagram p7: symbols MAX4376TASA to MAX9610TELT+]

## MAX4376TASA
designator U?
Single High-Side Current Sense Amplifier, 20 V / V Gain, -40 to 125 degC, 8-Pin SOIC (S8-2); PartNumber: MAX4376TASA; Bi-Dir. Curr. Sense: No; Gain: 20 V/V, 50 V/V ,100 V/V; Industry Qualified: Automotive - AECQ100, Automotive - General; DatasheetVersion: Rev. 7; PackageVersion: Rev. D, 10/2012; PackageReference: S8-2; PackageDescription: 8-Pin Small-Outline IC, Narrow (0.15in) (S8-2), Body 4.90 x 3.90 mm, Pitch 1.27 mm; Supplier 1: Digi-Key; Supplier Part Number 1: MAX4376TASA-ND; Supplier 2: Mouser; Supplier Part Number 2: 700-MAX4376TASA-NR; Mounting Technology: Surface Mount; Code_JEDEC: MS012; ComponentLink1Description: Manufacturer URL; ComponentLink1URL: http://www.maximintegrated.com/; ComponentLink2Description: Datasheet; ComponentLink2URL: http://datasheets.maximintegrated.com/en/ds/MAX4376-MAX4378.pdf; ComponentLink3Description: Package Specification; ComponentLink3URL: http://pdfserv.maximintegrated.com/package_dwgs/21-0041.PDF
footprint MAXM-S8-2_N (SOIC, 8-Leads, Body 4.90x3.90mm, Pitch 1.27mm, IPC Medium Density)
footprint MAXM-S8-2_L (SOIC, 8-Leads, Body 4.90x3.90mm, Pitch 1.27mm, IPC High Density)
footprint MAXM-S8-2_M (SOIC, 8-Leads, Body 4.90x3.90mm, Pitch 1.27mm, IPC Low Density)
pins: 1 VCC (power) "Supply Voltage. Use at least a 0.1uF capacitor to decouple VCC from fast transients", 2 NC "No Connection. Not internally connected.", 3 GND (power) "Ground", 4 OUT (out) "Output Voltage. VOUT is proportional to the magnitude of VSENSE (VRS+ - VRS-).", 5 NC "No Connection. Not internally connected.", 6 RS- (in) "Load connection to the external sense resistor.", 7 NC "No Connection. Not internally connected.", 8 RS+ (in) "Power connection to the external-sense resistor."

## MAX4376TASA+
designator U?
Single High-Side Current Sense Amplifier, 20 V / V Gain, -40 to 125 degC, 8-Pin SOIC (S8+2), Pb-Free; PartNumber: MAX4376TASA+; Bi-Dir. Curr. Sense: No; Gain: 20 V/V, 50 V/V ,100 V/V; Industry Qualified: Automotive - AECQ100, Automotive - General; DatasheetVersion: Rev. 7; PackageVersion: Rev. D, 10/2012; PackageReference: S8+2; PackageDescription: 8-Pin Small-Outline IC, Narrow (0.15in) (S8+2), Body 4.90 x 3.90 mm, Pitch 1.27 mm; Supplier 1: Digi-Key; Supplier Part Number 1: MAX4376TASA+-ND; Supplier 2: Mouser; Supplier Part Number 2: 700-MAX4376TASA; Mounting Technology: Surface Mount; Code_JEDEC: MS012; ComponentLink1Description: Manufacturer URL; ComponentLink1URL: http://www.maximintegrated.com/; ComponentLink2Description: Datasheet; ComponentLink2URL: http://datasheets.maximintegrated.com/en/ds/MAX4376-MAX4378.pdf; ComponentLink3Description: Package Specification; ComponentLink3URL: http://pdfserv.maximintegrated.com/package_dwgs/21-0041.PDF
footprint MAXM-S8+2_N (SOIC, 8-Leads, Body 4.90x3.90mm, Pitch 1.27mm, IPC Medium Density)
footprint MAXM-S8+2_L (SOIC, 8-Leads, Body 4.90x3.90mm, Pitch 1.27mm, IPC High Density)
footprint MAXM-S8+2_M (SOIC, 8-Leads, Body 4.90x3.90mm, Pitch 1.27mm, IPC Low Density)
pins: 1 VCC (power) "Supply Voltage. Use at least a 0.1uF capacitor to decouple VCC from fast transients", 2 NC "No Connection. Not internally connected.", 3 GND (power) "Ground", 4 OUT (out) "Output Voltage. VOUT is proportional to the magnitude of VSENSE (VRS+ - VRS-).", 5 NC "No Connection. Not internally connected.", 6 RS- (in) "Load connection to the external sense resistor.", 7 NC "No Connection. Not internally connected.", 8 RS+ (in) "Power connection to the external-sense resistor."

## MAX4376TASA+T
designator U?
Single High-Side Current Sense Amplifier, 20 V / V Gain, -40 to 125 degC, 8-Pin SOIC (S8+2), Pb-Free, Tape and Reel; PartNumber: MAX4376TASA+T; Bi-Dir. Curr. Sense: No; Gain: 20 V/V, 50 V/V ,100 V/V; Industry Qualified: Automotive - AECQ100, Automotive - General; DatasheetVersion: Rev. 7; PackageVersion: Rev. D, 10/2012; PackageReference: S8+2; PackageDescription: 8-Pin Small-Outline IC, Narrow (0.15in) (S8+2), Body 4.90 x 3.90 mm, Pitch 1.27 mm; Supplier 1: Digi-Key; Supplier Part Number 1: MAX4376TASA+T-ND; Supplier 2: Mouser; Supplier Part Number 2: 700-MAX4376TASA+T; Mounting Technology: Surface Mount; Code_JEDEC: MS012; ComponentLink1Description: Manufacturer URL; ComponentLink1URL: http://www.maximintegrated.com/; ComponentLink2Description: Datasheet; ComponentLink2URL: http://datasheets.maximintegrated.com/en/ds/MAX4376-MAX4378.pdf; ComponentLink3Description: Package Specification; ComponentLink3URL: http://pdfserv.maximintegrated.com/package_dwgs/21-0041.PDF
footprint MAXM-S8+2_N (SOIC, 8-Leads, Body 4.90x3.90mm, Pitch 1.27mm, IPC Medium Density)
footprint MAXM-S8+2_L (SOIC, 8-Leads, Body 4.90x3.90mm, Pitch 1.27mm, IPC High Density)
footprint MAXM-S8+2_M (SOIC, 8-Leads, Body 4.90x3.90mm, Pitch 1.27mm, IPC Low Density)
pins: 1 VCC (power) "Supply Voltage. Use at least a 0.1uF capacitor to decouple VCC from fast transients", 2 NC "No Connection. Not internally connected.", 3 GND (power) "Ground", 4 OUT (out) "Output Voltage. VOUT is proportional to the magnitude of VSENSE (VRS+ - VRS-).", 5 NC "No Connection. Not internally connected.", 6 RS- (in) "Load connection to the external sense resistor.", 7 NC "No Connection. Not internally connected.", 8 RS+ (in) "Power connection to the external-sense resistor."

## MAX4376TASA-T
designator U?
Single High-Side Current Sense Amplifier, 20 V / V Gain, -40 to 125 degC, 8-Pin SOIC (S8-2), Tape and Reel; PartNumber: MAX4376TASA-T; Bi-Dir. Curr. Sense: No; Gain: 20 V/V, 50 V/V ,100 V/V; Industry Qualified: Automotive - AECQ100, Automotive - General; DatasheetVersion: Rev. 7; PackageVersion: Rev. D, 10/2012; PackageReference: S8-2; PackageDescription: 8-Pin Small-Outline IC, Narrow (0.15in) (S8-2), Body 4.90 x 3.90 mm, Pitch 1.27 mm; Supplier 1: Digi-Key; Supplier Part Number 1: MAX4376TASA-T-ND; Supplier 2: Mouser; Supplier Part Number 2: 700-MAX4376TASA-T-; Mounting Technology: Surface Mount; Code_JEDEC: MS012; ComponentLink1Description: Manufacturer URL; ComponentLink1URL: http://www.maximintegrated.com/; ComponentLink2Description: Datasheet; ComponentLink2URL: http://datasheets.maximintegrated.com/en/ds/MAX4376-MAX4378.pdf; ComponentLink3Description: Package Specification; ComponentLink3URL: http://pdfserv.maximintegrated.com/package_dwgs/21-0041.PDF
footprint MAXM-S8-2_N (SOIC, 8-Leads, Body 4.90x3.90mm, Pitch 1.27mm, IPC Medium Density)
footprint MAXM-S8-2_L (SOIC, 8-Leads, Body 4.90x3.90mm, Pitch 1.27mm, IPC High Density)
footprint MAXM-S8-2_M (SOIC, 8-Leads, Body 4.90x3.90mm, Pitch 1.27mm, IPC Low Density)
pins: 1 VCC (power) "Supply Voltage. Use at least a 0.1uF capacitor to decouple VCC from fast transients", 2 NC "No Connection. Not internally connected.", 3 GND (power) "Ground", 4 OUT (out) "Output Voltage. VOUT is proportional to the magnitude of VSENSE (VRS+ - VRS-).", 5 NC "No Connection. Not internally connected.", 6 RS- (in) "Load connection to the external sense resistor.", 7 NC "No Connection. Not internally connected.", 8 RS+ (in) "Power connection to the external-sense resistor."

## MAX4376TAUK+
designator U?
Single High-Side Current Sense Amplifier, 20 V / V Gain, -40 to 125 degC, 5-Pin SOT23 (U5+2), Pb-Free; PartNumber: MAX4376TAUK+; Bi-Dir. Curr. Sense: No; Gain: 20 V/V, 50 V/V ,100 V/V; Industry Qualified: Automotive - AECQ100, Automotive - General; DatasheetVersion: Rev. 7; PackageVersion: Rev. G, 04/2011; PackageReference: U5+2; PackageDescription: 5-Pin Small-Outline Transistor Package, Body 1.625 x 2.9 mm, Pitch 0.95 mm; Supplier 1: Mouser; Supplier Part Number 1: N/A; Mounting Technology: Surface Mount; Code_JEDEC: MO178; ComponentLink1Description: Manufacturer URL; ComponentLink1URL: http://www.maximintegrated.com/; ComponentLink2Description: Datasheet; ComponentLink2URL: http://datasheets.maximintegrated.com/en/ds/MAX4376-MAX4378.pdf; ComponentLink3Description: Package Specification; ComponentLink3URL: http://pdfserv.maximintegrated.com/package_dwgs/21-0057.PDF
footprint MAXM-U5+2_N (SOT23, 5-Leads, Body 2.9x1.625mm, Pitch 0.95mm, IPC Medium Density)
footprint MAXM-U5+2_L (SOT23, 5-Leads, Body 2.9x1.625mm, Pitch 0.95mm, IPC High Density)
footprint MAXM-U5+2_M (SOT23, 5-Leads, Body 2.9x1.625mm, Pitch 0.95mm, IPC Low Density)
pins: 1 OUT (out) "Output Voltage. VOUT_ is proportional to the magnitude of the sense voltage (VRS+ - VRS-). VOUT_ is approximately zero when VRS - > VRS - + (no phase reversal).", 2 GND (power) "Ground", 3 VCC (power) "Supply Voltage", 4 RS+ (in) "Power connection to the external sense resistor", 5 RS- (in) "Load-side connection to the external sense resistor"

## MAX4376TAUK+T
designator U?
Single High-Side Current Sense Amplifier, 20 V / V Gain, -40 to 125 degC, 5-Pin SOT23 (U5+2), Pb-Free, Tape and Reel; PartNumber: MAX4376TAUK+T; Bi-Dir. Curr. Sense: No; Gain: 20 V/V, 50 V/V ,100 V/V; Industry Qualified: Automotive - AECQ100, Automotive - General; DatasheetVersion: Rev. 7; PackageVersion: Rev. G, 04/2011; PackageReference: U5+2; PackageDescription: 5-Pin Small-Outline Transistor Package, Body 1.625 x 2.9 mm, Pitch 0.95 mm; Supplier 1: Digi-Key; Supplier Part Number 1: MAX4376TAUK+TTR-ND; Supplier 2: Digi-Key; Supplier Part Number 2: MAX4376TAUK+TCT-ND; Supplier 3: Digi-Key; Supplier Part Number 3: MAX4376TAUK+TDKR-ND; Supplier 4: Mouser; Supplier Part Number 4: 700-MAX4376TAUK+T; Mounting Technology: Surface Mount; Code_JEDEC: MO178; ComponentLink1Description: Manufacturer URL; ComponentLink1URL: http://www.maximintegrated.com/; ComponentLink2Description: Datasheet; ComponentLink2URL: http://datasheets.maximintegrated.com/en/ds/MAX4376-MAX4378.pdf; ComponentLink3Description: Package Specification; ComponentLink3URL: http://pdfserv.maximintegrated.com/package_dwgs/21-0057.PDF
footprint MAXM-U5+2_N (SOT23, 5-Leads, Body 2.9x1.625mm, Pitch 0.95mm, IPC Medium Density)
footprint MAXM-U5+2_L (SOT23, 5-Leads, Body 2.9x1.625mm, Pitch 0.95mm, IPC High Density)
footprint MAXM-U5+2_M (SOT23, 5-Leads, Body 2.9x1.625mm, Pitch 0.95mm, IPC Low Density)
pins: 1 OUT (out) "Output Voltage. VOUT_ is proportional to the magnitude of the sense voltage (VRS+ - VRS-). VOUT_ is approximately zero when VRS - > VRS - + (no phase reversal).", 2 GND (power) "Ground", 3 VCC (power) "Supply Voltage", 4 RS+ (in) "Power connection to the external sense resistor", 5 RS- (in) "Load-side connection to the external sense resistor"

## MAX4376TAUK-T
designator U?
Single High-Side Current Sense Amplifier, 20 V / V Gain, -40 to 125 degC, 5-Pin SOT23 (U5-2), Tape and Reel; PartNumber: MAX4376TAUK-T; Bi-Dir. Curr. Sense: No; Gain: 20 V/V, 50 V/V ,100 V/V; Industry Qualified: Automotive - AECQ100, Automotive - General; DatasheetVersion: Rev. 7; PackageVersion: Rev. G, 04/2011; PackageReference: U5-2; PackageDescription: 5-Pin Small-Outline Transistor Package, Body 1.625 x 2.9 mm, Pitch 0.95 mm; Supplier 1: Mouser; Supplier Part Number 1: N/A; Mounting Technology: Surface Mount; Code_JEDEC: MO-178; ComponentLink1Description: Manufacturer URL; ComponentLink1URL: http://www.maximintegrated.com/; ComponentLink2Description: Datasheet; ComponentLink2URL: http://datasheets.maximintegrated.com/en/ds/MAX4376-MAX4378.pdf; ComponentLink3Description: Package Specification; ComponentLink3URL: http://pdfserv.maximintegrated.com/package_dwgs/21-0057.PDF
footprint MAXM-U5-2_N (SOT23, 5-Leads, Body 2.9x1.625mm, Pitch 0.95mm, IPC Medium Density)
footprint MAXM-U5-2_L (SOT23, 5-Leads, Body 2.9x1.625mm, Pitch 0.95mm, IPC High Density)
footprint MAXM-U5-2_M (SOT23, 5-Leads, Body 2.9x1.625mm, Pitch 0.95mm, IPC Low Density)
pins: 1 OUT (out) "Output Voltage. VOUT_ is proportional to the magnitude of the sense voltage (VRS+ - VRS-). VOUT_ is approximately zero when VRS - > VRS - + (no phase reversal).", 2 GND (power) "Ground", 3 VCC (power) "Supply Voltage", 4 RS+ (in) "Power connection to the external sense resistor", 5 RS- (in) "Load-side connection to the external sense resistor"